# Altium schematic symbol library passive_smd.SchLib: 55 symbols
Pins are listed as number, name and electrical type; pins without a type are passive.

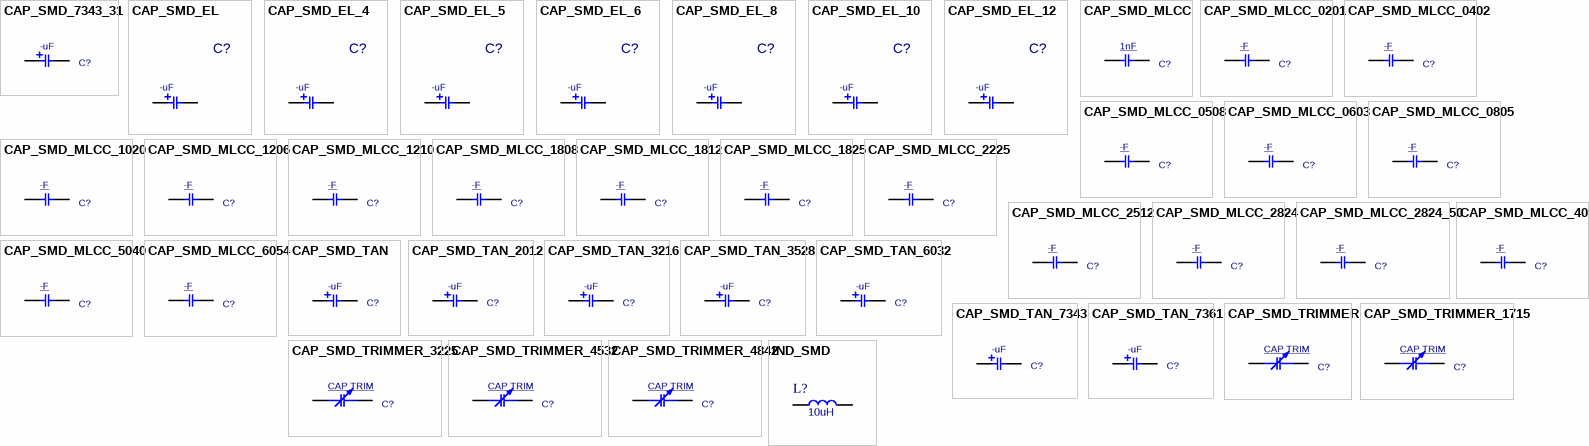
[diagram p0: symbols CAP_SMD_7343_31 to IND_SMD]

## CAP_SMD_7343_31
designator C?, comment -uF
CAP, SMD, TAN,; PARAM2: -V; VALUE: -uF
footprint C_TN_7343_31 (CAPACITOR, TAN D, TAN E, TAN Y, TAN X, 7343P, 7.3X4.3mm)
pins: 1, 2

## CAP_SMD_EL
designator C?, comment -uF
CAP, THD, ELEC,; MANF_P#: MANF_PART#; PARAM2: -V; DESC: DESCRIPTION; DIST#: MOUSER; PARAM: 20%; PRICE: 10= -$; MANF: MANF; ASSEMBLY: ASSEMBLY; VALUE: -uF
footprint C_EL_8 (Electrolytic Cap, Size E, Size F, 8.3X10)
footprint C_EL_4 (Electrolytic Cap, D: 4.3mm, Size B)
footprint C_EL_5 (Electrolytic Cap, D: 5.0mm, Size C)
footprint C_EL_6 (Electrolytic Cap, D: 6.3mm L: 7.7mm, Size D)
footprint C_EL_10 (Electrolytic Cap, 10.3x10.3mm)
footprint C_EL_12 (Electrolytic Cap, 12.5x13mm)
pins: 1, 2

## CAP_SMD_EL_4
designator C?, comment -uF
CAP, THD, ELEC,; MANF_P#: MANF_PART#; PARAM2: -V; DESC: DESCRIPTION; DIST#: MOUSER; PARAM: 20%; PRICE: 10= -$; MANF: MANF; ASSEMBLY: ASSEMBLY; VALUE: -uF
footprint C_EL_4 (Electrolytic Cap, D: 4.3mm, Size B)
pins: 1, 2

## CAP_SMD_EL_5
designator C?, comment -uF
CAP, THD, ELEC,; MANF_P#: MANF_PART#; PARAM2: -V; DESC: DESCRIPTION; DIST#: MOUSER; PARAM: 20%; PRICE: 10= -$; MANF: MANF; ASSEMBLY: ASSEMBLY; VALUE: -uF
footprint C_EL_5 (Electrolytic Cap, D: 5.0mm, Size C)
pins: 1, 2

## CAP_SMD_EL_6
designator C?, comment -uF
CAP, THD, ELEC,; MANF_P#: MANF_PART#; PARAM2: -V; DESC: DESCRIPTION; DIST#: MOUSER; PARAM: 20%; PRICE: 10= -$; MANF: MANF; ASSEMBLY: ASSEMBLY; VALUE: -uF
footprint C_EL_6 (Electrolytic Cap, D: 6.3mm L: 7.7mm, Size D)
pins: 1, 2

## CAP_SMD_EL_8
designator C?, comment -uF
CAP, THD, ELEC,; MANF_P#: MANF_PART#; PARAM2: -V; DESC: DESCRIPTION; DIST#: MOUSER; PARAM: 20%; PRICE: 10= -$; MANF: MANF; ASSEMBLY: ASSEMBLY; VALUE: -uF
footprint C_EL_8 (Electrolytic Cap, Size E, Size F, 8.3X10)
pins: 1, 2

## CAP_SMD_EL_10
designator C?, comment -uF
CAP, THD, ELEC,; MANF_P#: MANF_PART#; PARAM2: -V; DESC: DESCRIPTION; DIST#: MOUSER; PARAM: 20%; PRICE: 10= -$; MANF: MANF; ASSEMBLY: ASSEMBLY; VALUE: -uF
footprint C_EL_10 (Electrolytic Cap, 10.3x10.3mm)
pins: 1, 2

## CAP_SMD_EL_12
designator C?, comment -uF
CAP, THD, ELEC,; MANF_P#: MANF_PART#; PARAM2: -V; DESC: DESCRIPTION; DIST#: MOUSER; PARAM: 20%; PRICE: 10= -$; MANF: MANF; ASSEMBLY: ASSEMBLY; VALUE: -uF
footprint C_EL_12 (Electrolytic Cap, 12.5x13mm)
pins: 1, 2

## CAP_SMD_MLCC
designator C?, comment 1nF
CAP, MLCC, 1nF, 50V, C0G, 10%, 0402; MANF_P#: MANF_PART#; MANF: Murata; PARAM: C0G, 10%; PRICE: 100= 1$; DESC: CAP, MLCC, 1nF, 50V, C0G, 10%, 0402; PARAM2: 50V; ASSEMBLY: ASSEMBLY; VALUE: 1nF
footprint C0402 (CHIP Capacitor, 1.0X0.5mm, 0402)
footprint C0603 (CHIP Capacitor, 1.6X0.8mm, 0603)
footprint C0805 (CHIP Capacitor, 2.0X1.3mm, 0805)
footprint C1206 (CHIP Capacitor, 3.2X1.6mm, 1206)
footprint C1210 (CHIP Capacitor, 3.2X2.5mm, 1210, 3225)
footprint C0508 (CHIP Capacitor, 1.3X2.0mm, 0508)
footprint C1020 (CHIP Capacitor, 2.50x5.00mm)
footprint C1808 (CHIP Capacitor, 4.6X2.0mm, 1808, 1806, 4620, 4520)
footprint C1812 (Chip Capacitor, 4.5x3.2mm, 1612, 1812, 4532)
footprint C1825 (Chip Capacitor, 4.5x6.4mm, 1825, 4564)
footprint C2225 (Chip Capacitor, 5.6x6.4mm, 2225, 5664)
footprint C2512 (Chip Capacitor, 6.4x3.2mm, 2512, 6432)
footprint C0201 (CHIP Capacitor, 0.5x0.25mm, 0201)
pins: 1, 2

## CAP_SMD_MLCC_0201
designator C?, comment -F
CAP, MLCC, -F, -V, MATERIAL, -%, 0201; PARAM: -, -%; MANF_P#: MANF_PART#; PRICE: 100= 1$; MANF: -; PARAM2: -V; ASSEMBLY: ASSEMBLY; VALUE: -F
footprint C0402 (CHIP Capacitor, 1.0X0.5mm, 0402)
footprint C0603 (CHIP Capacitor, 1.6X0.8mm, 0603)
footprint C0805 (CHIP Capacitor, 2.0X1.3mm, 0805)
footprint C1206 (CHIP Capacitor, 3.2X1.6mm, 1206)
footprint C1210 (CHIP Capacitor, 3.2X2.5mm, 1210, 3225)
footprint C0508 (CHIP Capacitor, 1.3X2.0mm, 0508)
footprint C1020 (CHIP Capacitor, 2.50x5.00mm)
footprint C1808 (CHIP Capacitor, 4.6X2.0mm, 1808, 1806, 4620, 4520)
footprint C1812 (Chip Capacitor, 4.5x3.2mm, 1612, 1812, 4532)
footprint C1825 (Chip Capacitor, 4.5x6.4mm, 1825, 4564)
footprint C2225 (Chip Capacitor, 5.6x6.4mm, 2225, 5664)
footprint C2512 (Chip Capacitor, 6.4x3.2mm, 2512, 6432)
footprint C0201 (CHIP Capacitor, 0.5x0.25mm, 0201)
pins: 1, 2

## CAP_SMD_MLCC_0402
designator C?, comment -F
CAP, MLCC, -F, -V, MATERIAL, -%, 0201; PARAM: -, -%; MANF_P#: MANF_PART#; PRICE: 100= 1$; MANF: -; PARAM2: -V; ASSEMBLY: ASSEMBLY; VALUE: -F
footprint C0402 (CHIP Capacitor, 1.0X0.5mm, 0402)
pins: 1, 2

## CAP_SMD_MLCC_0508
designator C?, comment -F
CAP, MLCC, -F, -V, MATERIAL, -%, 0201; PARAM: -, -%; MANF_P#: MANF_PART#; PRICE: 100= 1$; MANF: -; PARAM2: -V; ASSEMBLY: ASSEMBLY; VALUE: -F
footprint C0508 (CHIP Capacitor, 1.3X2.0mm, 0508)
pins: 1, 2

## CAP_SMD_MLCC_0603
designator C?, comment -F
CAP, MLCC, -F, -V, MATERIAL, -%, 0201; PARAM: -, -%; MANF_P#: MANF_PART#; PRICE: 100= 1$; MANF: -; PARAM2: -V; ASSEMBLY: ASSEMBLY; VALUE: -F
footprint C0603 (CHIP Capacitor, 1.6X0.8mm, 0603)
pins: 1, 2

## CAP_SMD_MLCC_0805
designator C?, comment -F
CAP, MLCC, -F, -V, MATERIAL, -%, 0201; PARAM: -, -%; MANF_P#: MANF_PART#; PRICE: 100= 1$; MANF: -; PARAM2: -V; ASSEMBLY: ASSEMBLY; VALUE: -F
footprint C0805 (CHIP Capacitor, 2.0X1.3mm, 0805)
pins: 1, 2

## CAP_SMD_MLCC_1020
designator C?, comment -F
CAP, MLCC, -F, -V, MATERIAL, -%, 0201; PARAM: -, -%; MANF_P#: MANF_PART#; PRICE: 100= 1$; MANF: -; PARAM2: -V; ASSEMBLY: ASSEMBLY; VALUE: -F
footprint C1020 (CHIP Capacitor, 2.50x5.00mm)
pins: 1, 2

## CAP_SMD_MLCC_1206
designator C?, comment -F
CAP, MLCC, -F, -V, MATERIAL, -%, 0201; PARAM: -, -%; MANF_P#: MANF_PART#; PRICE: 100= 1$; MANF: -; PARAM2: -V; ASSEMBLY: ASSEMBLY; VALUE: -F
footprint C1206 (CHIP Capacitor, 3.2X1.6mm, 1206)
pins: 1, 2

## CAP_SMD_MLCC_1210
designator C?, comment -F
CAP, MLCC, -F, -V, MATERIAL, -%, 0201; PARAM: -, -%; MANF_P#: MANF_PART#; PRICE: 100= 1$; MANF: -; PARAM2: -V; ASSEMBLY: ASSEMBLY; VALUE: -F
footprint C1210 (CHIP Capacitor, 3.2X2.5mm, 1210, 3225)
pins: 1, 2

## CAP_SMD_MLCC_1808
designator C?, comment -F
CAP, MLCC, -F, -V, MATERIAL, -%, 0201; PARAM: -, -%; MANF_P#: MANF_PART#; PRICE: 100= 1$; MANF: -; PARAM2: -V; ASSEMBLY: ASSEMBLY; VALUE: -F
footprint C1808 (CHIP Capacitor, 4.6X2.0mm, 1808, 1806, 4620, 4520)
pins: 1, 2

## CAP_SMD_MLCC_1812
designator C?, comment -F
CAP, MLCC, -F, -V, MATERIAL, -%, 0201; PARAM: -, -%; MANF_P#: MANF_PART#; PRICE: 100= 1$; MANF: -; PARAM2: -V; ASSEMBLY: ASSEMBLY; VALUE: -F
footprint C1812 (Chip Capacitor, 4.5x3.2mm, 1612, 1812, 4532)
pins: 1, 2

## CAP_SMD_MLCC_1825
designator C?, comment -F
CAP, MLCC, -F, -V, MATERIAL, -%, 0201; PARAM: -, -%; MANF_P#: MANF_PART#; PRICE: 100= 1$; MANF: -; PARAM2: -V; ASSEMBLY: ASSEMBLY; VALUE: -F
footprint C1825 (Chip Capacitor, 4.5x6.4mm, 1825, 4564)
pins: 1, 2

## CAP_SMD_MLCC_2225
designator C?, comment -F
CAP, MLCC, -F, -V, MATERIAL, -%, 0201; PARAM: -, -%; MANF_P#: MANF_PART#; PRICE: 100= 1$; MANF: -; PARAM2: -V; ASSEMBLY: ASSEMBLY; VALUE: -F
footprint C2225 (Chip Capacitor, 5.6x6.4mm, 2225, 5664, 2220)
pins: 1, 2

## CAP_SMD_MLCC_2512
designator C?, comment -F
CAP, MLCC, -F, -V, MATERIAL, -%, 0201; PARAM: -, -%; MANF_P#: MANF_PART#; PRICE: 100= 1$; MANF: -; PARAM2: -V; ASSEMBLY: ASSEMBLY; VALUE: -F
footprint C2512 (Chip Capacitor, 6.4x3.2mm, 2512, 6432)
pins: 1, 2

## CAP_SMD_MLCC_2824
designator C?, comment -F
CAP, MLCC, -F, -V, MATERIAL, -%, 0201; PARAM: -, -%; MANF_P#: MANF_PART#; PRICE: 100= 1$; MANF: -; PARAM2: -V; ASSEMBLY: ASSEMBLY; VALUE: -F
footprint C2824 (Chip Capacitor, 7.2x6.1x3mm, 2824)
pins: 1, 2

## CAP_SMD_MLCC_2824_50
designator C?, comment -F
CAP, MLCC, -F, -V, MATERIAL, -%, 0201; PARAM: -, -%; MANF_P#: MANF_PART#; PRICE: 100= 1$; MANF: -; PARAM2: -V; ASSEMBLY: ASSEMBLY; VALUE: -F
footprint C2824_50 (Chip Capacitor, 7.2x6.1x5mm, 2824)
pins: 1, 2

## CAP_SMD_MLCC_4030
designator C?, comment -F
CAP, MLCC, -F, -V, MATERIAL, -%, 0201; PARAM: -, -%; MANF_P#: MANF_PART#; PRICE: 100= 1$; MANF: -; PARAM2: -V; ASSEMBLY: ASSEMBLY; VALUE: -F
footprint C4030 (Chip Capacitor, 10.2x7.6x5mm, 4030)
pins: 1, 2

## CAP_SMD_MLCC_5040
designator C?, comment -F
CAP, MLCC, -F, -V, MATERIAL, -%, 0201; PARAM: -, -%; MANF_P#: MANF_PART#; PRICE: 100= 1$; MANF: -; PARAM2: -V; ASSEMBLY: ASSEMBLY; VALUE: -F
footprint C5040 (Chip Capacitor, 12.7x10.2x6mm, 5040)
pins: 1, 2

## CAP_SMD_MLCC_6054
designator C?, comment -F
CAP, MLCC, -F, -V, MATERIAL, -%, 0201; PARAM: -, -%; MANF_P#: MANF_PART#; PRICE: 100= 1$; MANF: -; PARAM2: -V; ASSEMBLY: ASSEMBLY; VALUE: -F
footprint C6054 (Chip Capacitor, 15.3x13.7x7mm, 6054)
pins: 1, 2

## CAP_SMD_TAN
designator C?, comment -uF
CAP, SMD, TAN,; PARAM2: -V; VALUE: -uF
footprint C_TN_2012 (CAPACITOR, TAN N, TAN P, TAN R, 0805P, 2X1.3mm)
footprint C_TN_3216 (CAPACITOR, TAN A, 1206P, 3.2x1.6mm)
footprint C_TN_3528 (CAPACITOR, TAN B, TAN H, TAN T, TAN M, 3528P, 1210P, 3.5X2.8mm)
footprint C_TN_6032 (CAPACITOR, TAN C, TAN F, TAN U, TAN L, 6032P, 6.0X3.2mm)
footprint C_TN_7343 (CAPACITOR, TAN D, TAN E, TAN Y, TAN X, 7343P, 7.3X4.3mm)
footprint C_TN_7361 (CAPACITOR, TAN V, 2924, 7361, 7.3X6.1mm)
pins: 1, 2

## CAP_SMD_TAN_2012
designator C?, comment -uF
CAP, SMD, TAN,; PARAM2: -V; VALUE: -uF
footprint C_TN_2012 (CAPACITOR, TAN N, TAN P, TAN R, 0805P, 2X1.3mm)
pins: 1, 2

## CAP_SMD_TAN_3216
designator C?, comment -uF
CAP, SMD, TAN,; PARAM2: -V; VALUE: -uF
footprint C_TN_3216 (CAPACITOR, TAN A, 1206P, 3.2x1.6mm)
pins: 1, 2

## CAP_SMD_TAN_3528
designator C?, comment -uF
CAP, SMD, TAN,; PARAM2: -V; VALUE: -uF
footprint C_TN_3528 (CAPACITOR, TAN B, TAN H, TAN T, TAN M, 3528P, 1210P, 3.5X2.8mm)
pins: 1, 2

## CAP_SMD_TAN_6032
designator C?, comment -uF
CAP, SMD, TAN,; PARAM2: -V; VALUE: -uF
footprint C_TN_6032 (CAPACITOR, TAN C, TAN F, TAN U, TAN L, 6032P, 6.0X3.2mm)
pins: 1, 2

## CAP_SMD_TAN_7343
designator C?, comment -uF
CAP, SMD, TAN,; PARAM2: -V; VALUE: -uF
footprint C_TN_7343 (CAPACITOR, TAN D, TAN E, TAN Y, TAN X, 7343P, 7.3X4.3mm)
pins: 1, 2

## CAP_SMD_TAN_7361
designator C?, comment -uF
CAP, SMD, TAN,; PARAM2: -V; VALUE: -uF
footprint C_TN_7361 (CAPACITOR, TAN V, 2924, 7361, 7.3X6.1mm)
pins: 1, 2

## CAP_SMD_TRIMMER
designator C?, comment CAP TRIM
CAP, SMD, TRIMMER; MANF_P#: MANF_PART#; PARAM: PARAM; PRICE: 100= 1$; DESC: CAP, SMD, TRIMMER; MANF: MANF; PARAM2: PARAM2; ASSEMBLY: ASSEMBLY; VALUE: CAP TRIM
footprint C_TRM_1715 (Cap, Trimmer TZR1 1.7mmX1.5mm)
footprint C_TRM_3225 (Cap, Trimmer TZY2 3.2mmX2.5mm)
footprint C_TRM_4532 (Cap, Trimmer TZC3 4.5X3.2mm)
footprint C_TRM_4842 (Cap, Trimmer SMD 4.8x4.2mm)
pins: 1, 2

## CAP_SMD_TRIMMER_1715
designator C?, comment CAP TRIM
CAP, SMD, TRIMMER; MANF_P#: MANF_PART#; PARAM: PARAM; PRICE: 100= 1$; DESC: CAP, SMD, TRIMMER; MANF: MANF; PARAM2: PARAM2; ASSEMBLY: ASSEMBLY; VALUE: CAP TRIM
footprint C_TRM_1715 (Cap, Trimmer TZR1 1.7mmX1.5mm)
pins: 1, 2

## CAP_SMD_TRIMMER_3225
designator C?, comment CAP TRIM
CAP, SMD, TRIMMER; MANF_P#: MANF_PART#; PARAM: PARAM; PRICE: 100= 1$; DESC: CAP, SMD, TRIMMER; MANF: MANF; PARAM2: PARAM2; ASSEMBLY: ASSEMBLY; VALUE: CAP TRIM
footprint C_TRM_3225 (Cap, Trimmer TZY2 3.2mmX2.5mm)
pins: 1, 2

## CAP_SMD_TRIMMER_4532
designator C?, comment CAP TRIM
CAP, SMD, TRIMMER; MANF_P#: MANF_PART#; PARAM: PARAM; PRICE: 100= 1$; DESC: CAP, SMD, TRIMMER; MANF: MANF; PARAM2: PARAM2; ASSEMBLY: ASSEMBLY; VALUE: CAP TRIM
footprint C_TRM_4532 (Cap, Trimmer TZC3 4.5X3.2mm)
pins: 1, 2

## CAP_SMD_TRIMMER_4842
designator C?, comment CAP TRIM
CAP, SMD, TRIMMER; MANF_P#: MANF_PART#; PARAM: PARAM; PRICE: 100= 1$; DESC: CAP, SMD, TRIMMER; MANF: MANF; PARAM2: PARAM2; ASSEMBLY: ASSEMBLY; VALUE: CAP TRIM
footprint C_TRM_4842 (Cap, Trimmer SMD 4.8x4.2mm)
pins: 1, 2

## IND_SMD
designator L?, comment 10uH
INDUCTOR, SMD; VALUE: 10uH
footprint L0603 (INDUCTOR, FERRITE BEAD, 0603, 1.6X0.8mm)
pins: 1, 2

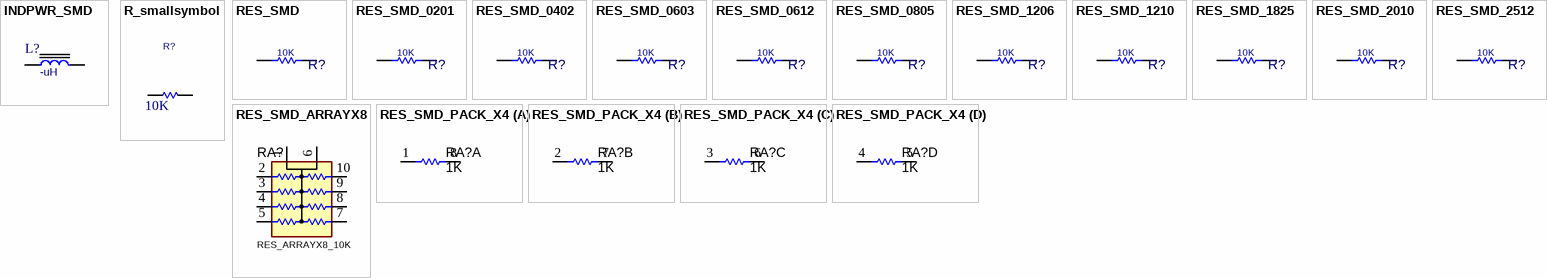
[diagram p1: symbols INDPWR_SMD to RES_SMD_PACK_X4]

## INDPWR_SMD
designator L?, comment -uH
INDUCTOR, POWER, SMD; VALUE: -uH
footprint L_12 (INDUCTOR, 13.5x12.5mm, DR125, CDRH127, D128C 931AS)
footprint L_3 (INDUCTOR, 3.0X3.2mm, VLS3012)
footprint L_4 (INDUCTOR, 3.8x3.8mm, 3.7x3.5mm, WURTH 744031470)
footprint L_5 (INDUCTOR, 5.0X5.0mm)
footprint L_6 (INDUCTOR, 6.0X6.0mm)
footprint L_7 (INDUCTOR, 7.2X6.9mm, 7.1X6.5mm, SPM6530)
footprint L_8 (INDUCTOR, 7.5X7.5mm, 8x8, DR74)
footprint L_10 (INDUCTOR, 10.35X10.35mm, CDRH104R, MSS1038 (coilcraft))
footprint L_2 (INDUCTOR, 2.0X2.0mm)
footprint L1007 (INDUCTOR, 2518 [1007], 2.5X1.8mm)
footprint L1008 (INDUCTOR, 2520 1008, 2.5X2.0mm)
pins: 1, 2

## R_smallsymbol
designator R?, comment 10K
VALUE: 10K
pins: 1, 2

## RES_SMD
designator R?, comment 10K
RESISTOR, SMD; PARAM: -W; DESC: DESCRIPTION; DIST#: MOUSER; PARAM2: 1%; MANF_P#: -; MANF: -; ASSEMBLY: ASSEMBLY; PRICE: 100= 0.5$; VALUE: 10K
footprint R0402 (CHIP Resistor 1/16 WATT, 1.0X0.5mm, 0402, 1005)
footprint R0603 (CHIP Resistor 1/10 WATT, 1.6x0.8mm, 0603, 1608)
footprint R0805 (CHIP RESISTOR 1/8 WATT ,2.0X1.3mm, 0805, 2012)
footprint R1206 (CHIP RESISTOR 1/4 WATT, Body 3.2x1.6mm,1206, 3216)
footprint R2512 (CHIP RESISTOR 1 WATT, 6.4X3.2mm, 2512, 6432)
footprint R2010 (CHIP RESISTOR 3/4 WATT, 5.1x3mm, 2010, 5025)
footprint R1210 (CHIP RESISTOR 1/2 WATT, Body 3.2x2.5mm,1210, 3225)
footprint R0201 (CHIP Capacitor, 0.5x0.25mm, 0201)
pins: 1, 2

## RES_SMD_0201
designator R?, comment 10K
RESISTOR, SMD; PARAM: -W; DESC: DESCRIPTION; DIST#: MOUSER; PARAM2: 1%; MANF_P#: -; MANF: -; ASSEMBLY: ASSEMBLY; PRICE: 100= 0.5$; VALUE: 10K
footprint R0201 (CHIP Capacitor, 0.5x0.25mm, 0201)
pins: 1, 2

## RES_SMD_0402
designator R?, comment 10K
RESISTOR, SMD; PARAM: -W; DESC: DESCRIPTION; DIST#: MOUSER; PARAM2: 1%; MANF_P#: -; MANF: -; ASSEMBLY: ASSEMBLY; PRICE: 100= 0.5$; VALUE: 10K
footprint R0402 (CHIP Resistor 1/16 WATT, 1.0X0.5mm, 0402, 1005)
pins: 1, 2

## RES_SMD_0603
designator R?, comment 10K
RESISTOR, SMD; PARAM: -W; DESC: DESCRIPTION; DIST#: MOUSER; PARAM2: 1%; MANF_P#: -; MANF: -; ASSEMBLY: ASSEMBLY; PRICE: 100= 0.5$; VALUE: 10K
footprint R0603 (CHIP Resistor 1/10 WATT, 1.6x0.8mm, 0603, 1608)
pins: 1, 2

## RES_SMD_0612
designator R?, comment 10K
RESISTOR, SMD; PARAM: -W; DESC: DESCRIPTION; DIST#: MOUSER; PARAM2: 1%; MANF_P#: -; MANF: -; ASSEMBLY: ASSEMBLY; PRICE: 100= 0.5$; VALUE: 10K
footprint R0612 (CHIP RESISTOR 1/4 WATT, Body 1.6x3.2mm, 1632, 0612)
pins: 1, 2

## RES_SMD_0805
designator R?, comment 10K
RESISTOR, SMD; PARAM: -W; DESC: DESCRIPTION; DIST#: MOUSER; PARAM2: 1%; MANF_P#: -; MANF: -; ASSEMBLY: ASSEMBLY; PRICE: 100= 0.5$; VALUE: 10K
footprint R0805 (CHIP RESISTOR 1/8 WATT ,2.0X1.3mm, 0805, 2012)
pins: 1, 2

## RES_SMD_1206
designator R?, comment 10K
RESISTOR, SMD; PARAM: -W; DESC: DESCRIPTION; DIST#: MOUSER; PARAM2: 1%; MANF_P#: -; MANF: -; ASSEMBLY: ASSEMBLY; PRICE: 100= 0.5$; VALUE: 10K
footprint R1206 (CHIP RESISTOR 1/4 WATT, Body 3.2x1.6mm,1206, 3216)
pins: 1, 2

## RES_SMD_1210
designator R?, comment 10K
RESISTOR, SMD; PARAM: -W; DESC: DESCRIPTION; DIST#: MOUSER; PARAM2: 1%; MANF_P#: -; MANF: -; ASSEMBLY: ASSEMBLY; PRICE: 100= 0.5$; VALUE: 10K
footprint R1210 (CHIP RESISTOR 1/2 WATT, Body 3.2x2.5mm,1210, 3225)
pins: 1, 2

## RES_SMD_1825
designator R?, comment 10K
RESISTOR, SMD; PARAM: -W; DESC: DESCRIPTION; DIST#: MOUSER; PARAM2: 1%; MANF_P#: -; MANF: -; ASSEMBLY: ASSEMBLY; PRICE: 100= 0.5$; VALUE: 10K
footprint R1825 (CHIP Resistor, 5.1x3.0mm, 4.6X6.4mm, 1825, 4565)
pins: 1, 2

## RES_SMD_2010
designator R?, comment 10K
RESISTOR, SMD; PARAM: -W; DESC: DESCRIPTION; DIST#: MOUSER; PARAM2: 1%; MANF_P#: -; MANF: -; ASSEMBLY: ASSEMBLY; PRICE: 100= 0.5$; VALUE: 10K
footprint R2010 (CHIP RESISTOR 3/4 WATT, 5.1x3mm, 2010, 5025)
pins: 1, 2

## RES_SMD_2512
designator R?, comment 10K
RESISTOR, SMD; PARAM: -W; DESC: DESCRIPTION; DIST#: MOUSER; PARAM2: 1%; MANF_P#: -; MANF: -; ASSEMBLY: ASSEMBLY; PRICE: 100= 0.5$; VALUE: 10K
footprint R2512 (CHIP RESISTOR 1 WATT, 6.4X3.2mm, 2512, 6432)
pins: 1, 2

## RES_SMD_ARRAYX8
designator RA?, comment RES_ARRAYX8_10K
RESISTOR, SMD, ARRAYX8,; MANF: Panasonic - ECG; MANF_P#: EXB-E10C103J; PARAM2: 5%; Value: RES_ARRAYX8_10K
footprint RARRX8_4021 (Resistor ARRAY X8, SMD, 4.0x2.1mm)
pins: 1 COM, 2, 3, 4, 5, 6 COM, 7, 8, 9, 10

## RES_SMD_PACK_X4
designator RA?, comment value 1K  (hidden comment: Film Res Pack)
RESISTOR, SMD, PACKX4; MANF_P#: MANF_PART#; MANF: MANF
footprint RP0603X4 (RPACK, 0603X4, 160X80X4 1206)
footprint RP0402X4 (RPACK, 0804, 0402X4, 100X50X4, 2.00x1.00mm)
part A pins: 1, 8
part B pins: 2, 7
part C pins: 3, 6
part D pins: 4, 5